# Altium footprint library LH351B.PcbLib: 1 footprints
Each footprint in its own frame and in the unit in brackets; x right, y up, seen from the top. Pads: shape width x height; smd on the part's side, far side on the other; paste and mask are expansions set on the pad; w line width, h text height; cw(c..) or ccw(c..) is an arc to the next point about the centre after c.
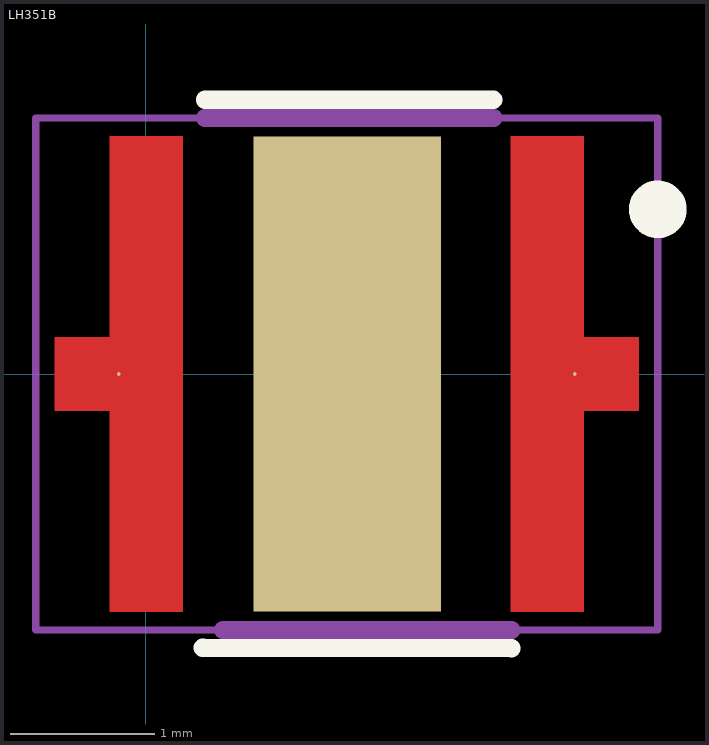
[diagram p0: the footprint, top view; thin cyan lines are the x and y axes]

## LH351B [mil]
pads (3):
  round 1 smd: 1(-7.32,0) 2(117.32,0)
  rect 51.18x129.92 smd: ""(55.12,0)
Top Layer:
  region: 10.18,-65 10.18,65 -9.82,65 -9.82,10 -24.82,10 -24.82,-10 -9.82,-10 -9.82,-65
  region: 99.82,-65 99.82,65 119.82,65 119.82,10 134.82,10 134.82,-10 119.82,-10 119.82,-65
Top Overlay:
  circle w7.87: c140,45 r3.94
  lines w5: 15.63,-74.84 100,-75 ; 16.26,75 95,75
Mechanical 13:
  lines w5: 16.26,70 95,70 ; 21.26,-70 100,-70
Mechanical 15:
  lines w1.97: -30,-70 140,-70 140,70 -30,70 -30,-70
3D body "LH351B.stp": height 74.8, standoff -1.22, extent -12.8,-67.8 125,70